# Altium footprint library PCB - LEADED - TSSOP-8N.PCBLIB: 1 footprints
Each footprint in its own frame and in the unit in brackets; x right, y up, seen from the top. Pads: shape width x height; smd on the part's side, far side on the other; paste and mask are expansions set on the pad; w line width, h text height; cw(c..) or ccw(c..) is an arc to the next point about the centre after c.
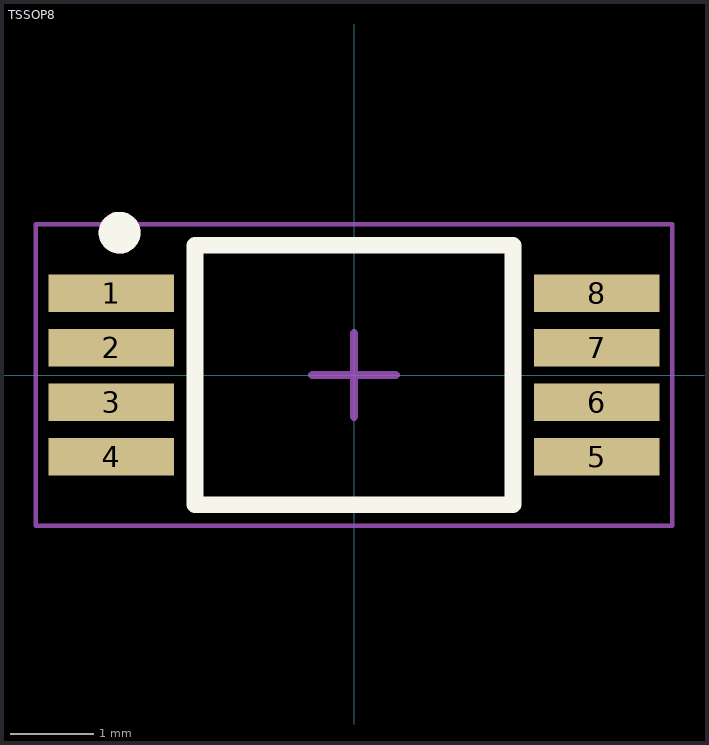
[diagram p0: the footprint, top view; thin cyan lines are the x and y axes]

## TSSOP8 [mm] "TSSOP, 8-Leads, Pitch 0,65mm, IPC Medium Density"
height 1.1
pads (8):
  rect 1.5x0.45 smd: 1(-2.9,0.975) 2(-2.9,0.325) 3(-2.9,-0.325) 4(-2.9,-0.975) 5(2.9,-0.975) 6(2.9,-0.325) 7(2.9,0.325) 8(2.9,0.975)
Top Overlay:
  circle w0.25: c-2.8,1.7 r0.125
  lines w0.2: -1.9,-1.55 1.9,-1.55 1.9,1.55 -1.9,1.55 -1.9,-1.55
Top Assembly:
  circle w0.25: c-2.8,1.7 r0.125
  lines w0.1: -1.9,-1.55 1.9,-1.55 1.9,1.55 -1.9,1.55 -1.9,-1.55
Top Courtyard:
  lines w0.05: -3.8,-1.8 -3.8,1.8 3.8,1.8 3.8,-1.8 -3.8,-1.8
Top Designator:
  text ".Designator" at -3.2,-2.8 h1
Top Component Center:
  lines w0.1: -0.5,0 0.5,0 ; 0,-0.5 0,0.5
Top Value:
  text ".Comment" at -3.2,-3.8 h1
3D body "tssop8_model.STEP": height 1.11, standoff 0.01, extent -3.2,-1.5 3.2,1.5